# Altium footprint library PCB - LEADED - SOIC - TOSHIBA SOIC-8 OPTO 11-6B1A.PcbLib: 1 footprints
Each footprint in its own frame and in the unit in brackets; x right, y up, seen from the top. Pads: shape width x height; smd on the part's side, far side on the other; paste and mask are expansions set on the pad; w line width, h text height; cw(c..) or ccw(c..) is an arc to the next point about the centre after c.
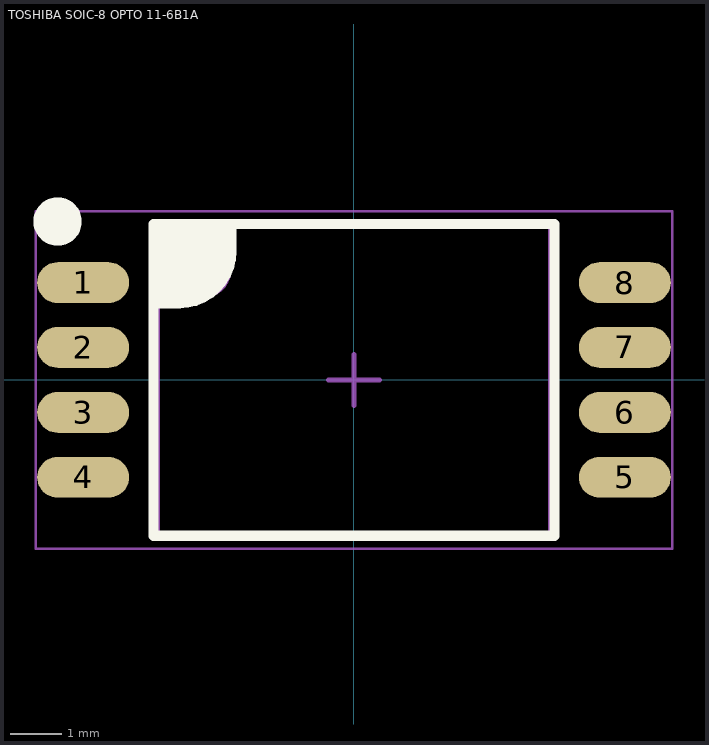
[diagram p0: the footprint, top view; thin cyan lines are the x and y axes]

## TOSHIBA SOIC-8 OPTO 11-6B1A [mm] "SOIC, 8-Leads, Body 5.85x7.50mm, Pitch 1.27mm, IPC Medium Density"
height 2.2
pads (8):
  oval 1.8x0.8 smd: 1(-5.3,1.905) 2(-5.3,0.635) 3(-5.3,-0.635) 4(-5.3,-1.905) 5(5.3,-1.905) 6(5.3,-0.635) 7(5.3,0.635) 8(5.3,1.905)
Top Overlay:
  circle w0.5: c-5.8,3.1 r0.224
  region: -3.925,3.05 -3.925,1.525 -3.925,1.52 -3.921,1.511 -3.914,1.504 -3.905,1.5 -3.9,1.5 -3.416,1.5 -3.316,1.5 -3.12,1.539 -2.935,1.616 -2.768,1.727 -2.627,1.868 -2.516,2.035 -2.439,2.22 -2.4,2.416 -2.4,2.516 -2.4,3
  lines w0.2: -3.9,1.5 -3.416,1.5 ccw(c-3.416,2.516) -2.4,2.516 -2.4,3 ; -3.925,-3.05 -3.925,3.05 3.925,3.05 3.925,-3.05 -3.925,-3.05
Mechanical 13:
  circle w0.1: c-2.95,2.15 r0.5
  lines w0.1: -3.85,-3.05 3.85,-3.05 3.85,3.05 -3.85,3.05 -3.85,-3.05
Mechanical 15:
  lines w0.05: -6.225,-3.3 6.225,-3.3 6.225,3.3 -6.225,3.3 -6.225,-3.3
Mechanical 2 (Mech9):
  lines w0.1: -0.5,0 0.5,0 ; 0,-0.5 0,0.5
3D body "TOSHIBA SOIC-8 OPTO 11-6B1A.step": height 2.2, standoff 0, extent -5.525,-3.05 5.525,3.05